# EAGLE library part HDMI_MOLEX_47151-0001 (library microbuilder)
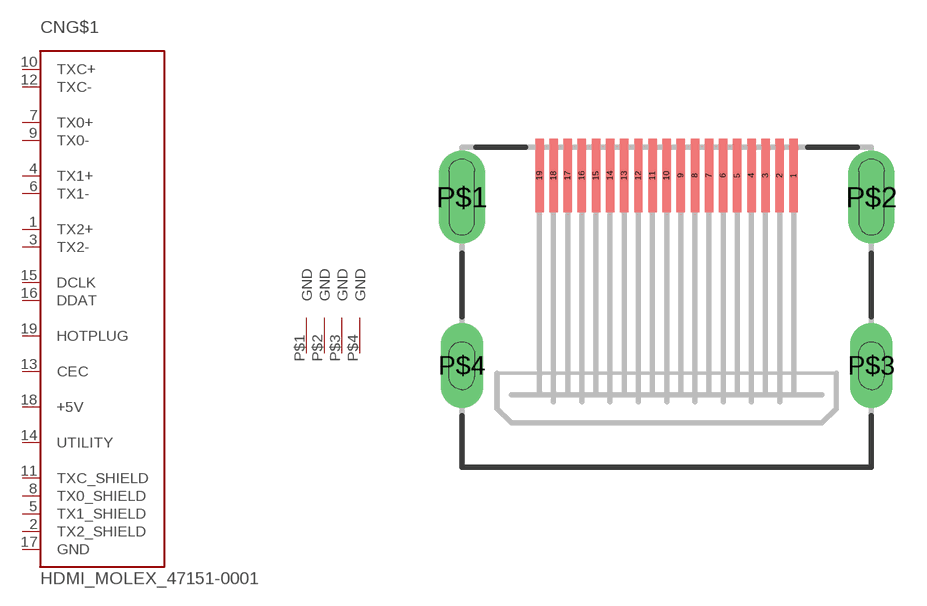
[diagram p149: symbol with the pads of HDMI_MOLEX_47151-0001; footprint HDMI_MOLEX_47151-0001]

Designator prefix CN; gates G$1=HDMI_CONN SHELL=HDMI_SHELL

## HDMI_MOLEX_47151-0001  [HDMI_MOLEX_47151-0001]
1  G$1:TX2+
2  G$1:TX2_SHIELD  pwr
3  G$1:TX2-
4  G$1:TX1+
5  G$1:TX1_SHIELD  pwr
6  G$1:TX1-
7  G$1:TX0+
8  G$1:TX0_SHIELD  pwr
9  G$1:TX0-
10  G$1:TXC+
11  G$1:TXC_SHIELD  pwr
12  G$1:TXC-
13  G$1:CEC
14  G$1:UTILITY
15  G$1:DCLK
16  G$1:DDAT
17  G$1:GND  pwr
18  G$1:+5V  pwr
19  G$1:HOTPLUG
P$1  SHELL:GND  pwr
P$2  SHELL:GND  pwr
P$3  SHELL:GND  pwr
P$4  SHELL:GND  pwr

## Footprint HDMI_MOLEX_47151-0001 (pad centres in mm)
smd 0.3 x 2.6: 1 4.5,0; 2 4,0; 3 3.5,0; 4 3,0; 5 2.5,0; 6 2,0; 7 1.5,0; 8 1,0; 9 0.5,0; 10 0,0; 11 -0.5,0; 12 -1,0; 13 -1.5,0; 14 -2,0; 15 -2.5,0; 16 -3,0; 17 -3.5,0; 18 -4,0; 19 -4.5,0
drill 0.9 pad 1.65 long: P$1 -7.25,-0.76; P$2 7.25,-0.76
drill 0.9 pad 1.5 long: P$3 7.25,-6.72; P$4 -7.25,-6.72